# Altium integrated library Resistor - Current Sense.IntLib: 810 symbols (part 3 of 12)
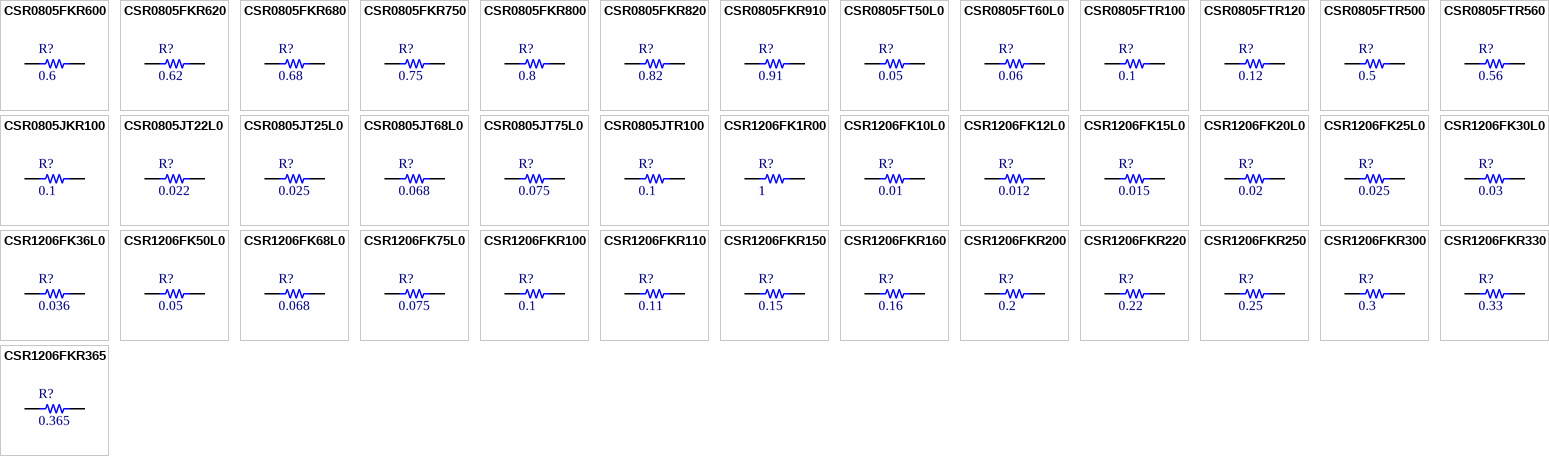
[diagram p22: symbols CSR0805FKR600 to CSR1206FKR365]

## CSR1206FK12L0
designator R?, comment 0.012
RES SMD 0.012 OHM 1% 1/2W 1206; Part Number: CSR1206FK12L0; Manufacturer: Stackpole Electronics Inc.; TemperatureRange: -55C ~ 155C; PowerRating: 0.5W, 1/2W; Value: 0.012; PartId: 9926; Supplier 1: Digi-Key; Supplier Part Number 1: CSR1206FK12L0TR-ND; ComponentLink1Description: Datasheet; ComponentLink1URL: http://www.seielect.com/catalog/SEI-CSR_CSRN.pdf; ComponentLink2Description: Digi-Key Listing; ComponentLink2URL: https://www.digikey.com/product-detail/en/stackpole-electronics-inc/CSR1206FK12L0/CSR1206FK12L0TR-ND/1788085; Tolerance: 1%; Price: 0.112; Device Package: 1206 (3216 Metric)
footprint STACKPOLE CSR1206
pins: 1, 2

## CSR1206FK15L0
designator R?, comment 0.015
RES SMD 0.015 OHM 1% 1/2W 1206; Part Number: CSR1206FK15L0; Manufacturer: Stackpole Electronics Inc.; TemperatureRange: -55C ~ 155C; PowerRating: 0.5W, 1/2W; Value: 0.015; PartId: 9928; Supplier 1: Digi-Key; Supplier Part Number 1: CSR1206FK15L0TR-ND; ComponentLink1Description: Datasheet; ComponentLink1URL: http://www.seielect.com/catalog/SEI-CSR_CSRN.pdf; ComponentLink2Description: Digi-Key Listing; ComponentLink2URL: https://www.digikey.com/product-detail/en/stackpole-electronics-inc/CSR1206FK15L0/CSR1206FK15L0TR-ND/1742360; Tolerance: 1%; Price: 0.112; Device Package: 1206 (3216 Metric)
footprint STACKPOLE CSR1206
pins: 1, 2

## CSR1206FK20L0
designator R?, comment 0.02
RES SMD 0.02 OHM 1% 1/2W 1206; Part Number: CSR1206FK20L0; Manufacturer: Stackpole Electronics Inc.; TemperatureRange: -55C ~ 155C; PowerRating: 0.5W, 1/2W; Value: 0.02; PartId: 9931; Supplier 1: Digi-Key; Supplier Part Number 1: CSR1206FK20L0TR-ND; ComponentLink1Description: Datasheet; ComponentLink1URL: http://www.seielect.com/catalog/SEI-CSR_CSRN.pdf; ComponentLink2Description: Digi-Key Listing; ComponentLink2URL: https://www.digikey.com/product-detail/en/stackpole-electronics-inc/CSR1206FK20L0/CSR1206FK20L0TR-ND/1646092; Tolerance: 1%; Price: 0.098; Device Package: 1206 (3216 Metric)
footprint STACKPOLE CSR1206
pins: 1, 2

## CSR1206FK25L0
designator R?, comment 0.025
RES SMD 0.025 OHM 1% 1/2W 1206; Part Number: CSR1206FK25L0; Manufacturer: Stackpole Electronics Inc.; TemperatureRange: -55C ~ 155C; PowerRating: 0.5W, 1/2W; Value: 0.025; PartId: 9934; Supplier 1: Digi-Key; Supplier Part Number 1: CSR1206FK25L0TR-ND; ComponentLink1Description: Datasheet; ComponentLink1URL: http://www.seielect.com/catalog/SEI-CSR_CSRN.pdf; ComponentLink2Description: Digi-Key Listing; ComponentLink2URL: https://www.digikey.com/product-detail/en/stackpole-electronics-inc/CSR1206FK25L0/CSR1206FK25L0TR-ND/1646093; Tolerance: 1%; Price: 0.098; Device Package: 1206 (3216 Metric)
footprint STACKPOLE CSR1206
pins: 1, 2

## CSR1206FK30L0
designator R?, comment 0.03
RES SMD 0.03 OHM 1% 1/2W 1206; Part Number: CSR1206FK30L0; Manufacturer: Stackpole Electronics Inc.; TemperatureRange: -55C ~ 155C; PowerRating: 0.5W, 1/2W; Value: 0.03; PartId: 9936; Supplier 1: Digi-Key; Supplier Part Number 1: CSR1206FK30L0TR-ND; ComponentLink1Description: Datasheet; ComponentLink1URL: http://www.seielect.com/catalog/SEI-CSR_CSRN.pdf; ComponentLink2Description: Digi-Key Listing; ComponentLink2URL: https://www.digikey.com/product-detail/en/stackpole-electronics-inc/CSR1206FK30L0/CSR1206FK30L0TR-ND/1646094; Tolerance: 1%; Price: 0.098; Device Package: 1206 (3216 Metric)
footprint STACKPOLE CSR1206
pins: 1, 2

## CSR1206FK36L0
designator R?, comment 0.036
RES SMD 0.036 OHM 1% 1/2W 1206; Part Number: CSR1206FK36L0; Manufacturer: Stackpole Electronics Inc.; TemperatureRange: -55C ~ 155C; PowerRating: 0.5W, 1/2W; Value: 0.036; PartId: 9939; Supplier 1: Digi-Key; Supplier Part Number 1: CSR1206FK36L0-ND; ComponentLink1Description: Datasheet; ComponentLink1URL: http://www.seielect.com/catalog/SEI-CSR_CSRN.pdf; ComponentLink2Description: Digi-Key Listing; ComponentLink2URL: https://www.digikey.com/product-detail/en/stackpole-electronics-inc/CSR1206FK36L0/CSR1206FK36L0-ND/1742368; Tolerance: 1%; Price: 0.098; Device Package: 1206 (3216 Metric)
footprint STACKPOLE CSR1206
pins: 1, 2

## CSR1206FK50L0
designator R?, comment 0.05
RES SMD 0.05 OHM 1% 1/2W 1206; Part Number: CSR1206FK50L0; Manufacturer: Stackpole Electronics Inc.; TemperatureRange: -55C ~ 155C; TemperatureCoefficient: 100ppm/C; PowerRating: 0.5W, 1/2W; Value: 0.05; PartId: 9944; Supplier 1: Digi-Key; Supplier Part Number 1: CSR1206FK50L0TR-ND; ComponentLink1Description: Datasheet; ComponentLink1URL: http://www.seielect.com/catalog/SEI-CSR_CSRN.pdf; ComponentLink2Description: Digi-Key Listing; ComponentLink2URL: https://www.digikey.com/product-detail/en/stackpole-electronics-inc/CSR1206FK50L0/CSR1206FK50L0TR-ND/1646095; Tolerance: 1%; Price: 0.096; Device Package: 1206 (3216 Metric)
footprint STACKPOLE CSR1206
pins: 1, 2

## CSR1206FK68L0
designator R?, comment 0.068
RES SMD 0.068 OHM 1% 1/2W 1206; Part Number: CSR1206FK68L0; Manufacturer: Stackpole Electronics Inc.; TemperatureRange: -55C ~ 155C; TemperatureCoefficient: 100ppm/C; PowerRating: 0.5W, 1/2W; Value: 0.068; PartId: 9949; Supplier 1: Digi-Key; Supplier Part Number 1: CSR1206FK68L0-ND; ComponentLink1Description: Datasheet; ComponentLink1URL: http://www.seielect.com/catalog/SEI-CSR_CSRN.pdf; ComponentLink2Description: Digi-Key Listing; ComponentLink2URL: https://www.digikey.com/product-detail/en/stackpole-electronics-inc/CSR1206FK68L0/CSR1206FK68L0-ND/1742376; Tolerance: 1%; Price: 0.096; Device Package: 1206 (3216 Metric)
footprint STACKPOLE CSR1206
pins: 1, 2

## CSR1206FK75L0
designator R?, comment 0.075
RES SMD 0.075 OHM 1% 1/2W 1206; Part Number: CSR1206FK75L0; Manufacturer: Stackpole Electronics Inc.; TemperatureRange: -55C ~ 155C; TemperatureCoefficient: 100ppm/C; PowerRating: 0.5W, 1/2W; Value: 0.075; PartId: 9950; Supplier 1: Digi-Key; Supplier Part Number 1: CSR1206FK75L0TR-ND; ComponentLink1Description: Datasheet; ComponentLink1URL: http://www.seielect.com/catalog/SEI-CSR_CSRN.pdf; ComponentLink2Description: Digi-Key Listing; ComponentLink2URL: https://www.digikey.com/product-detail/en/stackpole-electronics-inc/CSR1206FK75L0/CSR1206FK75L0TR-ND/1646096; Tolerance: 1%; Price: 0.096; Device Package: 1206 (3216 Metric)
footprint STACKPOLE CSR1206
pins: 1, 2

## CSR1206FKR100
designator R?, comment 0.1
RES SMD 0.1 OHM 1% 1/2W 1206; Part Number: CSR1206FKR100; Manufacturer: Stackpole Electronics Inc.; TemperatureRange: -55C ~ 155C; TemperatureCoefficient: 100ppm/C; PowerRating: 0.5W, 1/2W; Value: 0.1; PartId: 9953; Supplier 1: Digi-Key; Supplier Part Number 1: CSR1206FKR100TR-ND; ComponentLink1Description: Datasheet; ComponentLink1URL: http://www.seielect.com/catalog/SEI-CSR_CSRN.pdf; ComponentLink2Description: Digi-Key Listing; ComponentLink2URL: https://www.digikey.com/product-detail/en/stackpole-electronics-inc/CSR1206FKR100/CSR1206FKR100TR-ND/1646317; Tolerance: 1%; Price: 0.072; Device Package: 1206 (3216 Metric)
footprint STACKPOLE CSR1206
pins: 1, 2

## CSR1206FKR110
designator R?, comment 0.11
RES SMD 0.11 OHM 1% 1/2W 1206; Part Number: CSR1206FKR110; Manufacturer: Stackpole Electronics Inc.; TemperatureRange: -55C ~ 155C; TemperatureCoefficient: 100ppm/C; PowerRating: 0.5W, 1/2W; Value: 0.11; PartId: 9956; Supplier 1: Digi-Key; Supplier Part Number 1: CSR1206FKR110-ND; ComponentLink1Description: Datasheet; ComponentLink1URL: http://www.seielect.com/catalog/SEI-CSR_CSRN.pdf; ComponentLink2Description: Digi-Key Listing; ComponentLink2URL: https://www.digikey.com/product-detail/en/stackpole-electronics-inc/CSR1206FKR110/CSR1206FKR110-ND/1742381; Tolerance: 1%; Price: 0.072; Device Package: 1206 (3216 Metric)
footprint STACKPOLE CSR1206
pins: 1, 2

## CSR1206FKR150
designator R?, comment 0.15
RES SMD 0.15 OHM 1% 1/2W 1206; Part Number: CSR1206FKR150; Manufacturer: Stackpole Electronics Inc.; TemperatureRange: -55C ~ 155C; TemperatureCoefficient: 100ppm/C; PowerRating: 0.5W, 1/2W; Value: 0.15; PartId: 9961; Supplier 1: Digi-Key; Supplier Part Number 1: CSR1206FKR150-ND; ComponentLink1Description: Datasheet; ComponentLink1URL: http://www.seielect.com/catalog/SEI-CSR_CSRN.pdf; ComponentLink2Description: Digi-Key Listing; ComponentLink2URL: https://www.digikey.com/product-detail/en/stackpole-electronics-inc/CSR1206FKR150/CSR1206FKR150-ND/1742386; Tolerance: 1%; Price: 0.072; Device Package: 1206 (3216 Metric)
footprint STACKPOLE CSR1206
pins: 1, 2

## CSR1206FKR160
designator R?, comment 0.16
RES SMD 0.16 OHM 1% 1/2W 1206; Part Number: CSR1206FKR160; Manufacturer: Stackpole Electronics Inc.; TemperatureRange: -55C ~ 155C; TemperatureCoefficient: 100ppm/C; PowerRating: 0.5W, 1/2W; Value: 0.16; PartId: 9962; Supplier 1: Digi-Key; Supplier Part Number 1: CSR1206FKR160-ND; ComponentLink1Description: Datasheet; ComponentLink1URL: http://www.seielect.com/catalog/SEI-CSR_CSRN.pdf; ComponentLink2Description: Digi-Key Listing; ComponentLink2URL: https://www.digikey.com/product-detail/en/stackpole-electronics-inc/CSR1206FKR160/CSR1206FKR160-ND/1742388; Tolerance: 1%; Price: 0.072; Device Package: 1206 (3216 Metric)
footprint STACKPOLE CSR1206
pins: 1, 2

## CSR1206FKR200
designator R?, comment 0.2
RES SMD 0.2 OHM 1% 1/2W 1206; Part Number: CSR1206FKR200; Manufacturer: Stackpole Electronics Inc.; TemperatureRange: -55C ~ 155C; TemperatureCoefficient: 100ppm/C; PowerRating: 0.5W, 1/2W; Value: 0.2; PartId: 9964; Supplier 1: Digi-Key; Supplier Part Number 1: CSR1206FKR200TR-ND; ComponentLink1Description: Datasheet; ComponentLink1URL: http://www.seielect.com/catalog/SEI-CSR_CSRN.pdf; ComponentLink2Description: Digi-Key Listing; ComponentLink2URL: https://www.digikey.com/product-detail/en/stackpole-electronics-inc/CSR1206FKR200/CSR1206FKR200TR-ND/1742391; Tolerance: 1%; Price: 0.072; Device Package: 1206 (3216 Metric)
footprint STACKPOLE CSR1206
pins: 1, 2

## CSR1206FKR220
designator R?, comment 0.22
RES SMD 0.22 OHM 1% 1/2W 1206; Part Number: CSR1206FKR220; Manufacturer: Stackpole Electronics Inc.; TemperatureRange: -55C ~ 155C; TemperatureCoefficient: 100ppm/C; PowerRating: 0.5W, 1/2W; Value: 0.22; PartId: 9966; Supplier 1: Digi-Key; Supplier Part Number 1: CSR1206FKR220-ND; ComponentLink1Description: Datasheet; ComponentLink1URL: http://www.seielect.com/catalog/SEI-CSR_CSRN.pdf; ComponentLink2Description: Digi-Key Listing; ComponentLink2URL: https://www.digikey.com/product-detail/en/stackpole-electronics-inc/CSR1206FKR220/CSR1206FKR220-ND/1742392; Tolerance: 1%; Price: 0.072; Device Package: 1206 (3216 Metric)
footprint STACKPOLE CSR1206
pins: 1, 2

## CSR1206FKR250
designator R?, comment 0.25
RES SMD 0.25 OHM 1% 1/2W 1206; Part Number: CSR1206FKR250; Manufacturer: Stackpole Electronics Inc.; TemperatureRange: -55C ~ 155C; TemperatureCoefficient: 100ppm/C; PowerRating: 0.5W, 1/2W; Value: 0.25; PartId: 9967; Supplier 1: Digi-Key; Supplier Part Number 1: CSR1206FKR250TR-ND; ComponentLink1Description: Datasheet; ComponentLink1URL: http://www.seielect.com/catalog/SEI-CSR_CSRN.pdf; ComponentLink2Description: Digi-Key Listing; ComponentLink2URL: https://www.digikey.com/product-detail/en/stackpole-electronics-inc/CSR1206FKR250/CSR1206FKR250TR-ND/1788086; Tolerance: 1%; Price: 0.072; Device Package: 1206 (3216 Metric)
footprint STACKPOLE CSR1206
pins: 1, 2

## CSR1206FKR300
designator R?, comment 0.3
RES SMD 0.3 OHM 1% 1/2W 1206; Part Number: CSR1206FKR300; Manufacturer: Stackpole Electronics Inc.; TemperatureRange: -55C ~ 155C; TemperatureCoefficient: 100ppm/C; PowerRating: 0.5W, 1/2W; Value: 0.3; PartId: 9969; Supplier 1: Digi-Key; Supplier Part Number 1: CSR1206FKR300TR-ND; ComponentLink1Description: Datasheet; ComponentLink1URL: http://www.seielect.com/catalog/SEI-CSR_CSRN.pdf; ComponentLink2Description: Digi-Key Listing; ComponentLink2URL: https://www.digikey.com/product-detail/en/stackpole-electronics-inc/CSR1206FKR300/CSR1206FKR300TR-ND/1788087; Tolerance: 1%; Price: 0.072; Device Package: 1206 (3216 Metric)
footprint STACKPOLE CSR1206
pins: 1, 2

## CSR1206FKR330
designator R?, comment 0.33
RES SMD 0.33 OHM 1% 1/2W 1206; Part Number: CSR1206FKR330; Manufacturer: Stackpole Electronics Inc.; TemperatureRange: -55C ~ 155C; TemperatureCoefficient: 100ppm/C; PowerRating: 0.5W, 1/2W; Value: 0.33; PartId: 9970; Supplier 1: Digi-Key; Supplier Part Number 1: CSR1206FKR330TR-ND; ComponentLink1Description: Datasheet; ComponentLink1URL: http://www.seielect.com/catalog/SEI-CSR_CSRN.pdf; ComponentLink2Description: Digi-Key Listing; ComponentLink2URL: https://www.digikey.com/product-detail/en/stackpole-electronics-inc/CSR1206FKR330/CSR1206FKR330TR-ND/1742395; Tolerance: 1%; Price: 0.072; Device Package: 1206 (3216 Metric)
footprint STACKPOLE CSR1206
pins: 1, 2

## CSR1206FKR365
designator R?, comment 0.365
RES SMD 0.365 OHM 1% 1/2W 1206; Part Number: CSR1206FKR365; Manufacturer: Stackpole Electronics Inc.; TemperatureRange: -55C ~ 155C; TemperatureCoefficient: 100ppm/C; PowerRating: 0.5W, 1/2W; Value: 0.365; PartId: 9971; Supplier 1: Digi-Key; Supplier Part Number 1: CSR1206FKR365-ND; ComponentLink1Description: Datasheet; ComponentLink1URL: http://www.seielect.com/catalog/SEI-CSR_CSRN.pdf; ComponentLink2Description: Digi-Key Listing; ComponentLink2URL: https://www.digikey.com/product-detail/en/stackpole-electronics-inc/CSR1206FKR365/CSR1206FKR365-ND/1742396; Tolerance: 1%; Price: 0.072; Device Package: 1206 (3216 Metric)
footprint STACKPOLE CSR1206
pins: 1, 2

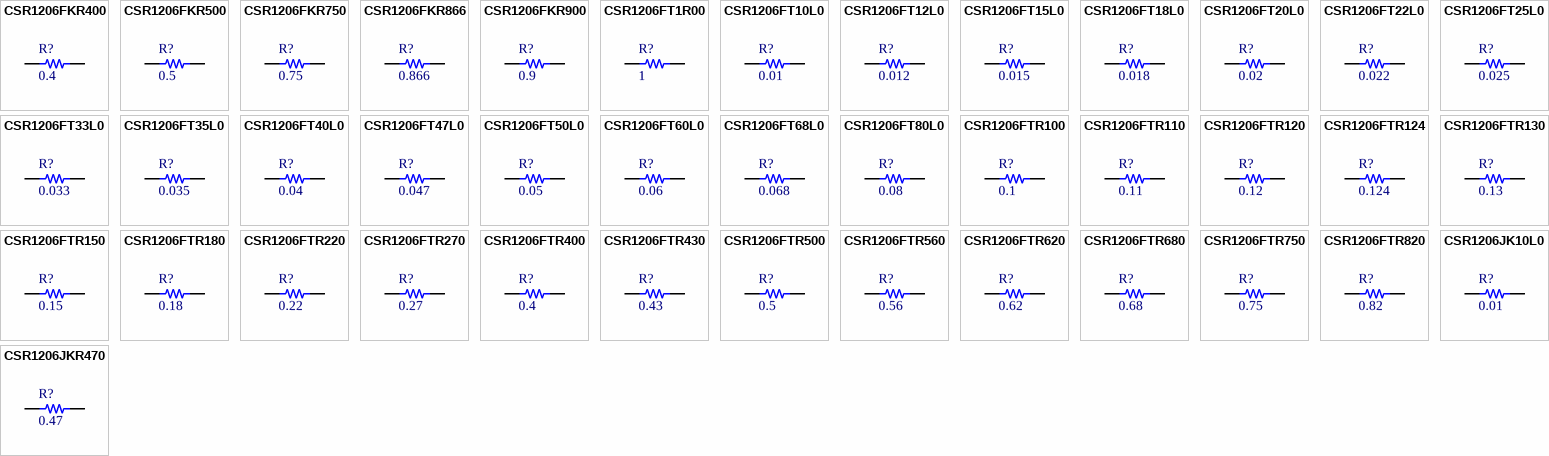
[diagram p4: symbols CSR1206FKR400 to CSR1206JKR470]

## CSR1206FKR400
designator R?, comment 0.4
RES SMD 0.4 OHM 1% 1/2W 1206; Part Number: CSR1206FKR400; Manufacturer: Stackpole Electronics Inc.; TemperatureRange: -55C ~ 155C; TemperatureCoefficient: 100ppm/C; PowerRating: 0.5W, 1/2W; Value: 0.4; PartId: 9973; Supplier 1: Digi-Key; Supplier Part Number 1: CSR1206FKR400-ND; ComponentLink1Description: Datasheet; ComponentLink1URL: http://www.seielect.com/catalog/SEI-CSR_CSRN.pdf; ComponentLink2Description: Digi-Key Listing; ComponentLink2URL: https://www.digikey.com/product-detail/en/stackpole-electronics-inc/CSR1206FKR400/CSR1206FKR400-ND/1742397; Tolerance: 1%; Price: 0.072; Device Package: 1206 (3216 Metric)
footprint STACKPOLE CSR1206
pins: 1, 2

## CSR1206FKR500
designator R?, comment 0.5
RES SMD 0.5 OHM 1% 1/2W 1206; Part Number: CSR1206FKR500; Manufacturer: Stackpole Electronics Inc.; TemperatureRange: -55C ~ 155C; TemperatureCoefficient: 100ppm/C; PowerRating: 0.5W, 1/2W; Value: 0.5; PartId: 9977; Supplier 1: Digi-Key; Supplier Part Number 1: CSR1206FKR500TR-ND; ComponentLink1Description: Datasheet; ComponentLink1URL: http://www.seielect.com/catalog/SEI-CSR_CSRN.pdf; ComponentLink2Description: Digi-Key Listing; ComponentLink2URL: https://www.digikey.com/product-detail/en/stackpole-electronics-inc/CSR1206FKR500/CSR1206FKR500TR-ND/1788088; Tolerance: 1%; Price: 0.051; Device Package: 1206 (3216 Metric)
footprint STACKPOLE CSR1206
pins: 1, 2

## CSR1206FKR750
designator R?, comment 0.75
RES SMD 0.75 OHM 1% 1/2W 1206; Part Number: CSR1206FKR750; Manufacturer: Stackpole Electronics Inc.; TemperatureRange: -55C ~ 155C; TemperatureCoefficient: 100ppm/C; PowerRating: 0.5W, 1/2W; Value: 0.75; PartId: 9982; Supplier 1: Digi-Key; Supplier Part Number 1: CSR1206FKR750TR-ND; ComponentLink1Description: Datasheet; ComponentLink1URL: http://www.seielect.com/catalog/SEI-CSR_CSRN.pdf; ComponentLink2Description: Digi-Key Listing; ComponentLink2URL: https://www.digikey.com/product-detail/en/stackpole-electronics-inc/CSR1206FKR750/CSR1206FKR750TR-ND/1788089; Tolerance: 1%; Price: 0.051; Device Package: 1206 (3216 Metric)
footprint STACKPOLE CSR1206
pins: 1, 2

## CSR1206FKR866
designator R?, comment 0.866
RES SMD 0.866 OHM 1% 1/2W 1206; Part Number: CSR1206FKR866; Manufacturer: Stackpole Electronics Inc.; TemperatureRange: -55C ~ 155C; TemperatureCoefficient: 100ppm/C; PowerRating: 0.5W, 1/2W; Value: 0.866; PartId: 9985; Supplier 1: Digi-Key; Supplier Part Number 1: CSR1206FKR866-ND; ComponentLink1Description: Datasheet; ComponentLink1URL: http://www.seielect.com/catalog/SEI-CSR_CSRN.pdf; ComponentLink2Description: Digi-Key Listing; ComponentLink2URL: https://www.digikey.com/product-detail/en/stackpole-electronics-inc/CSR1206FKR866/CSR1206FKR866-ND/1742408; Tolerance: 1%; Price: 0.0427; Device Package: 1206 (3216 Metric)
footprint STACKPOLE CSR1206
pins: 1, 2

## CSR1206FKR900
designator R?, comment 0.9
RES SMD 0.9 OHM 1% 1/2W 1206; Part Number: CSR1206FKR900; Manufacturer: Stackpole Electronics Inc.; TemperatureRange: -55C ~ 155C; TemperatureCoefficient: 100ppm/C; PowerRating: 0.5W, 1/2W; Value: 0.9; PartId: 9986; Supplier 1: Digi-Key; Supplier Part Number 1: CSR1206FKR900-ND; ComponentLink1Description: Datasheet; ComponentLink1URL: http://www.seielect.com/catalog/SEI-CSR_CSRN.pdf; ComponentLink2Description: Digi-Key Listing; ComponentLink2URL: https://www.digikey.com/product-detail/en/stackpole-electronics-inc/CSR1206FKR900/CSR1206FKR900-ND/1742409; Tolerance: 1%; Price: 0.0427; Device Package: 1206 (3216 Metric)
footprint STACKPOLE CSR1206
pins: 1, 2

## CSR1206FT1R00
designator R?, comment 1
RES SMD 1 OHM 1% 1/2W 1206; Part Number: CSR1206FT1R00; Manufacturer: Stackpole Electronics Inc.; TemperatureRange: -55C ~ 155C; TemperatureCoefficient: 100ppm/C; PowerRating: 0.5W, 1/2W; Value: 1; PartId: 9987; Supplier 1: Digi-Key; Supplier Part Number 1: CSR1206FT1R00TR-ND; ComponentLink1Description: Datasheet; ComponentLink1URL: http://www.seielect.com/catalog/SEI-CSR_CSRN.pdf; ComponentLink2Description: Digi-Key Listing; ComponentLink2URL: https://www.digikey.com/product-detail/en/stackpole-electronics-inc/CSR1206FT1R00/CSR1206FT1R00TR-ND/2027024; Tolerance: 1%; Price: 0.0427; Device Package: 1206 (3216 Metric)
footprint STACKPOLE CSR1206
pins: 1, 2

## CSR1206FT10L0
designator R?, comment 0.01
RES SMD 0.01 OHM 1% 1/2W 1206; Part Number: CSR1206FT10L0; Manufacturer: Stackpole Electronics Inc.; TemperatureRange: -55C ~ 155C; PowerRating: 0.5W, 1/2W; Value: 0.01; PartId: 9923; Supplier 1: Digi-Key; Supplier Part Number 1: CSR1206FT10L0TR-ND; ComponentLink1Description: Datasheet; ComponentLink1URL: http://www.seielect.com/catalog/SEI-CSR_CSRN.pdf; ComponentLink2Description: Digi-Key Listing; ComponentLink2URL: https://www.digikey.com/product-detail/en/stackpole-electronics-inc/CSR1206FT10L0/CSR1206FT10L0TR-ND/1742357; Tolerance: 1%; Price: 0.1064; Device Package: 1206 (3216 Metric)
footprint STACKPOLE CSR1206
pins: 1, 2

## CSR1206FT12L0
designator R?, comment 0.012
RES SMD 0.012 OHM 1% 1/2W 1206; Part Number: CSR1206FT12L0; Manufacturer: Stackpole Electronics Inc.; TemperatureRange: -55C ~ 155C; PowerRating: 0.5W, 1/2W; Value: 0.012; PartId: 9927; Supplier 1: Digi-Key; Supplier Part Number 1: CSR1206FT12L0-ND; ComponentLink1Description: Datasheet; ComponentLink1URL: http://www.seielect.com/catalog/SEI-CSR_CSRN.pdf; ComponentLink2Description: Digi-Key Listing; ComponentLink2URL: https://www.digikey.com/product-detail/en/stackpole-electronics-inc/CSR1206FT12L0/CSR1206FT12L0-ND/1742359; Tolerance: 1%; Price: 0.1064; Device Package: 1206 (3216 Metric)
footprint STACKPOLE CSR1206
pins: 1, 2

## CSR1206FT15L0
designator R?, comment 0.015
RES SMD 0.015 OHM 1% 1/2W 1206; Part Number: CSR1206FT15L0; Manufacturer: Stackpole Electronics Inc.; TemperatureRange: -55C ~ 155C; PowerRating: 0.5W, 1/2W; Value: 0.015; PartId: 9929; Supplier 1: Digi-Key; Supplier Part Number 1: CSR1206FT15L0-ND; ComponentLink1Description: Datasheet; ComponentLink1URL: http://www.seielect.com/catalog/SEI-CSR_CSRN.pdf; ComponentLink2Description: Digi-Key Listing; ComponentLink2URL: https://www.digikey.com/product-detail/en/stackpole-electronics-inc/CSR1206FT15L0/CSR1206FT15L0-ND/1742361; Tolerance: 1%; Price: 0.1064; Device Package: 1206 (3216 Metric)
footprint STACKPOLE CSR1206
pins: 1, 2

## CSR1206FT18L0
designator R?, comment 0.018
RES SMD 0.018 OHM 1% 1/2W 1206; Part Number: CSR1206FT18L0; Manufacturer: Stackpole Electronics Inc.; TemperatureRange: -55C ~ 155C; PowerRating: 0.5W, 1/2W; Value: 0.018; PartId: 9930; Supplier 1: Digi-Key; Supplier Part Number 1: CSR1206FT18L0-ND; ComponentLink1Description: Datasheet; ComponentLink1URL: http://www.seielect.com/catalog/SEI-CSR_CSRN.pdf; ComponentLink2Description: Digi-Key Listing; ComponentLink2URL: https://www.digikey.com/product-detail/en/stackpole-electronics-inc/CSR1206FT18L0/CSR1206FT18L0-ND/1742362; Tolerance: 1%; Price: 0.1064; Device Package: 1206 (3216 Metric)
footprint STACKPOLE CSR1206
pins: 1, 2

## CSR1206FT20L0
designator R?, comment 0.02
RES SMD 0.02 OHM 1% 1/2W 1206; Part Number: CSR1206FT20L0; Manufacturer: Stackpole Electronics Inc.; TemperatureRange: -55C ~ 155C; PowerRating: 0.5W, 1/2W; Value: 0.02; PartId: 9932; Supplier 1: Digi-Key; Supplier Part Number 1: CSR1206FT20L0-ND; ComponentLink1Description: Datasheet; ComponentLink1URL: http://www.seielect.com/catalog/SEI-CSR_CSRN.pdf; ComponentLink2Description: Digi-Key Listing; ComponentLink2URL: https://www.digikey.com/product-detail/en/stackpole-electronics-inc/CSR1206FT20L0/CSR1206FT20L0-ND/1742363; Tolerance: 1%; Price: 0.1064; Device Package: 1206 (3216 Metric)
footprint STACKPOLE CSR1206
pins: 1, 2

## CSR1206FT22L0
designator R?, comment 0.022
RES SMD 0.022 OHM 1% 1/2W 1206; Part Number: CSR1206FT22L0; Manufacturer: Stackpole Electronics Inc.; TemperatureRange: -55C ~ 155C; PowerRating: 0.5W, 1/2W; Value: 0.022; PartId: 9933; Supplier 1: Digi-Key; Supplier Part Number 1: CSR1206FT22L0-ND; ComponentLink1Description: Datasheet; ComponentLink1URL: http://www.seielect.com/catalog/SEI-CSR_CSRN.pdf; ComponentLink2Description: Digi-Key Listing; ComponentLink2URL: https://www.digikey.com/product-detail/en/stackpole-electronics-inc/CSR1206FT22L0/CSR1206FT22L0-ND/1742364; Tolerance: 1%; Price: 0.0931; Device Package: 1206 (3216 Metric)
footprint STACKPOLE CSR1206
pins: 1, 2

## CSR1206FT25L0
designator R?, comment 0.025
RES SMD 0.025 OHM 1% 1/2W 1206; Part Number: CSR1206FT25L0; Manufacturer: Stackpole Electronics Inc.; TemperatureRange: -55C ~ 155C; PowerRating: 0.5W, 1/2W; Value: 0.025; PartId: 9935; Supplier 1: Digi-Key; Supplier Part Number 1: CSR1206FT25L0-ND; ComponentLink1Description: Datasheet; ComponentLink1URL: http://www.seielect.com/catalog/SEI-CSR_CSRN.pdf; ComponentLink2Description: Digi-Key Listing; ComponentLink2URL: https://www.digikey.com/product-detail/en/stackpole-electronics-inc/CSR1206FT25L0/CSR1206FT25L0-ND/1742365; Tolerance: 1%; Price: 0.0931; Device Package: 1206 (3216 Metric)
footprint STACKPOLE CSR1206
pins: 1, 2

## CSR1206FT33L0
designator R?, comment 0.033
RES SMD 0.033 OHM 1% 1/2W 1206; Part Number: CSR1206FT33L0; Manufacturer: Stackpole Electronics Inc.; TemperatureRange: -55C ~ 155C; PowerRating: 0.5W, 1/2W; Value: 0.033; PartId: 9937; Supplier 1: Digi-Key; Supplier Part Number 1: CSR1206FT33L0-ND; ComponentLink1Description: Datasheet; ComponentLink1URL: http://www.seielect.com/catalog/SEI-CSR_CSRN.pdf; ComponentLink2Description: Digi-Key Listing; ComponentLink2URL: https://www.digikey.com/product-detail/en/stackpole-electronics-inc/CSR1206FT33L0/CSR1206FT33L0-ND/1742366; Tolerance: 1%; Price: 0.0931; Device Package: 1206 (3216 Metric)
footprint STACKPOLE CSR1206
pins: 1, 2

## CSR1206FT35L0
designator R?, comment 0.035
RES SMD 0.035 OHM 1% 1/2W 1206; Part Number: CSR1206FT35L0; Manufacturer: Stackpole Electronics Inc.; TemperatureRange: -55C ~ 155C; PowerRating: 0.5W, 1/2W; Value: 0.035; PartId: 9938; Supplier 1: Digi-Key; Supplier Part Number 1: CSR1206FT35L0-ND; ComponentLink1Description: Datasheet; ComponentLink1URL: http://www.seielect.com/catalog/SEI-CSR_CSRN.pdf; ComponentLink2Description: Digi-Key Listing; ComponentLink2URL: https://www.digikey.com/product-detail/en/stackpole-electronics-inc/CSR1206FT35L0/CSR1206FT35L0-ND/1742367; Tolerance: 1%; Price: 0.0931; Device Package: 1206 (3216 Metric)
footprint STACKPOLE CSR1206
pins: 1, 2

## CSR1206FT40L0
designator R?, comment 0.04
RES SMD 0.04 OHM 1% 1/2W 1206; Part Number: CSR1206FT40L0; Manufacturer: Stackpole Electronics Inc.; TemperatureRange: -55C ~ 155C; PowerRating: 0.5W, 1/2W; Value: 0.04; PartId: 9940; Supplier 1: Digi-Key; Supplier Part Number 1: CSR1206FT40L0-ND; ComponentLink1Description: Datasheet; ComponentLink1URL: http://www.seielect.com/catalog/SEI-CSR_CSRN.pdf; ComponentLink2Description: Digi-Key Listing; ComponentLink2URL: https://www.digikey.com/product-detail/en/stackpole-electronics-inc/CSR1206FT40L0/CSR1206FT40L0-ND/1742369; Tolerance: 1%; Price: 0.0931; Device Package: 1206 (3216 Metric)
footprint STACKPOLE CSR1206
pins: 1, 2

## CSR1206FT47L0
designator R?, comment 0.047
RES SMD 0.047 OHM 1% 1/2W 1206; Part Number: CSR1206FT47L0; Manufacturer: Stackpole Electronics Inc.; TemperatureRange: -55C ~ 155C; PowerRating: 0.5W, 1/2W; Value: 0.047; PartId: 9941; Supplier 1: Digi-Key; Supplier Part Number 1: CSR1206FT47L0-ND; ComponentLink1Description: Datasheet; ComponentLink1URL: http://www.seielect.com/catalog/SEI-CSR_CSRN.pdf; ComponentLink2Description: Digi-Key Listing; ComponentLink2URL: https://www.digikey.com/product-detail/en/stackpole-electronics-inc/CSR1206FT47L0/CSR1206FT47L0-ND/1742370; Tolerance: 1%; Price: 0.0931; Device Package: 1206 (3216 Metric)
footprint STACKPOLE CSR1206
pins: 1, 2

## CSR1206FT50L0
designator R?, comment 0.05
RES SMD 0.05 OHM 1% 1/2W 1206; Part Number: CSR1206FT50L0; Manufacturer: Stackpole Electronics Inc.; TemperatureRange: -55C ~ 155C; TemperatureCoefficient: 100ppm/C; PowerRating: 0.5W, 1/2W; Value: 0.05; PartId: 9943; Supplier 1: Digi-Key; Supplier Part Number 1: CSR1206FT50L0TR-ND; ComponentLink1Description: Datasheet; ComponentLink1URL: http://www.seielect.com/catalog/SEI-CSR_CSRN.pdf; ComponentLink2Description: Digi-Key Listing; ComponentLink2URL: https://www.digikey.com/product-detail/en/stackpole-electronics-inc/CSR1206FT50L0/CSR1206FT50L0TR-ND/1742372; Tolerance: 1%; Price: 0.0675; Device Package: 1206 (3216 Metric)
footprint STACKPOLE CSR1206
pins: 1, 2

## CSR1206FT60L0
designator R?, comment 0.06
RES SMD 0.06 OHM 1% 1/2W 1206; Part Number: CSR1206FT60L0; Manufacturer: Stackpole Electronics Inc.; TemperatureRange: -55C ~ 155C; TemperatureCoefficient: 100ppm/C; PowerRating: 0.5W, 1/2W; Value: 0.06; PartId: 9947; Supplier 1: Digi-Key; Supplier Part Number 1: CSR1206FT60L0-ND; ComponentLink1Description: Datasheet; ComponentLink1URL: http://www.seielect.com/catalog/SEI-CSR_CSRN.pdf; ComponentLink2Description: Digi-Key Listing; ComponentLink2URL: https://www.digikey.com/product-detail/en/stackpole-electronics-inc/CSR1206FT60L0/CSR1206FT60L0-ND/1742375; Tolerance: 1%; Price: 0.081; Device Package: 1206 (3216 Metric)
footprint STACKPOLE CSR1206
pins: 1, 2

## CSR1206FT68L0
designator R?, comment 0.068
RES SMD 0.068 OHM 1% 1/2W 1206; Part Number: CSR1206FT68L0; Manufacturer: Stackpole Electronics Inc.; TemperatureRange: -55C ~ 155C; TemperatureCoefficient: 100ppm/C; PowerRating: 0.5W, 1/2W; Value: 0.068; PartId: 9948; Supplier 1: Digi-Key; Supplier Part Number 1: CSR1206FT68L0-ND; ComponentLink1Description: Datasheet; ComponentLink1URL: http://www.seielect.com/catalog/SEI-CSR_CSRN.pdf; ComponentLink2Description: Digi-Key Listing; ComponentLink2URL: https://www.digikey.com/product-detail/en/stackpole-electronics-inc/CSR1206FT68L0/CSR1206FT68L0-ND/1742377; Tolerance: 1%; Price: 0.081; Device Package: 1206 (3216 Metric)
footprint STACKPOLE CSR1206
pins: 1, 2

## CSR1206FT80L0
designator R?, comment 0.08
RES SMD 0.08 OHM 1% 1/2W 1206; Part Number: CSR1206FT80L0; Manufacturer: Stackpole Electronics Inc.; TemperatureRange: -55C ~ 155C; TemperatureCoefficient: 100ppm/C; PowerRating: 0.5W, 1/2W; Value: 0.08; PartId: 9951; Supplier 1: Digi-Key; Supplier Part Number 1: CSR1206FT80L0-ND; ComponentLink1Description: Datasheet; ComponentLink1URL: http://www.seielect.com/catalog/SEI-CSR_CSRN.pdf; ComponentLink2Description: Digi-Key Listing; ComponentLink2URL: https://www.digikey.com/product-detail/en/stackpole-electronics-inc/CSR1206FT80L0/CSR1206FT80L0-ND/1742378; Tolerance: 1%; Price: 0.081; Device Package: 1206 (3216 Metric)
footprint STACKPOLE CSR1206
pins: 1, 2

## CSR1206FTR100
designator R?, comment 0.1
RES SMD 0.1 OHM 1% 1/2W 1206; Part Number: CSR1206FTR100; Manufacturer: Stackpole Electronics Inc.; TemperatureRange: -55C ~ 155C; TemperatureCoefficient: 100ppm/C; PowerRating: 0.5W, 1/2W; Value: 0.1; PartId: 9952; Supplier 1: Digi-Key; Supplier Part Number 1: CSR1206FTR100TR-ND; ComponentLink1Description: Datasheet; ComponentLink1URL: http://www.seielect.com/catalog/SEI-CSR_CSRN.pdf; ComponentLink2Description: Digi-Key Listing; ComponentLink2URL: https://www.digikey.com/product-detail/en/stackpole-electronics-inc/CSR1206FTR100/CSR1206FTR100TR-ND/1742379; Tolerance: 1%; Price: 0.054; Device Package: 1206 (3216 Metric)
footprint STACKPOLE CSR1206
pins: 1, 2

## CSR1206FTR110
designator R?, comment 0.11
RES SMD 0.11 OHM 1% 1/2W 1206; Part Number: CSR1206FTR110; Manufacturer: Stackpole Electronics Inc.; TemperatureRange: -55C ~ 155C; TemperatureCoefficient: 100ppm/C; PowerRating: 0.5W, 1/2W; Value: 0.11; PartId: 9955; Supplier 1: Digi-Key; Supplier Part Number 1: CSR1206FTR110-ND; ComponentLink1Description: Datasheet; ComponentLink1URL: http://www.seielect.com/catalog/SEI-CSR_CSRN.pdf; ComponentLink2Description: Digi-Key Listing; ComponentLink2URL: https://www.digikey.com/product-detail/en/stackpole-electronics-inc/CSR1206FTR110/CSR1206FTR110-ND/1742382; Tolerance: 1%; Price: 0.0607; Device Package: 1206 (3216 Metric)
footprint STACKPOLE CSR1206
pins: 1, 2

## CSR1206FTR120
designator R?, comment 0.12
RES SMD 0.12 OHM 1% 1/2W 1206; Part Number: CSR1206FTR120; Manufacturer: Stackpole Electronics Inc.; TemperatureRange: -55C ~ 155C; TemperatureCoefficient: 100ppm/C; PowerRating: 0.5W, 1/2W; Value: 0.12; PartId: 9957; Supplier 1: Digi-Key; Supplier Part Number 1: CSR1206FTR120-ND; ComponentLink1Description: Datasheet; ComponentLink1URL: http://www.seielect.com/catalog/SEI-CSR_CSRN.pdf; ComponentLink2Description: Digi-Key Listing; ComponentLink2URL: https://www.digikey.com/product-detail/en/stackpole-electronics-inc/CSR1206FTR120/CSR1206FTR120-ND/1742383; Tolerance: 1%; Price: 0.0607; Device Package: 1206 (3216 Metric)
footprint STACKPOLE CSR1206
pins: 1, 2

## CSR1206FTR124
designator R?, comment 0.124
RES SMD 0.124 OHM 1% 1/2W 1206; Part Number: CSR1206FTR124; Manufacturer: Stackpole Electronics Inc.; TemperatureRange: -55C ~ 155C; TemperatureCoefficient: 100ppm/C; PowerRating: 0.5W, 1/2W; Value: 0.124; PartId: 9958; Supplier 1: Digi-Key; Supplier Part Number 1: CSR1206FTR124-ND; ComponentLink1Description: Datasheet; ComponentLink1URL: http://www.seielect.com/catalog/SEI-CSR_CSRN.pdf; ComponentLink2Description: Digi-Key Listing; ComponentLink2URL: https://www.digikey.com/product-detail/en/stackpole-electronics-inc/CSR1206FTR124/CSR1206FTR124-ND/1742384; Tolerance: 1%; Price: 0.0607; Device Package: 1206 (3216 Metric)
footprint STACKPOLE CSR1206
pins: 1, 2

## CSR1206FTR130
designator R?, comment 0.13
RES SMD 0.13 OHM 1% 1/2W 1206; Part Number: CSR1206FTR130; Manufacturer: Stackpole Electronics Inc.; TemperatureRange: -55C ~ 155C; TemperatureCoefficient: 100ppm/C; PowerRating: 0.5W, 1/2W; Value: 0.13; PartId: 9959; Supplier 1: Digi-Key; Supplier Part Number 1: CSR1206FTR130TR-ND; ComponentLink1Description: Datasheet; ComponentLink1URL: http://www.seielect.com/catalog/SEI-CSR_CSRN.pdf; ComponentLink2Description: Digi-Key Listing; ComponentLink2URL: https://www.digikey.com/product-detail/en/stackpole-electronics-inc/CSR1206FTR130/CSR1206FTR130TR-ND/1742385; Tolerance: 1%; Price: 0.0607; Device Package: 1206 (3216 Metric)
footprint STACKPOLE CSR1206
pins: 1, 2

## CSR1206FTR150
designator R?, comment 0.15
RES SMD 0.15 OHM 1% 1/2W 1206; Part Number: CSR1206FTR150; Manufacturer: Stackpole Electronics Inc.; TemperatureRange: -55C ~ 155C; TemperatureCoefficient: 100ppm/C; PowerRating: 0.5W, 1/2W; Value: 0.15; PartId: 9960; Supplier 1: Digi-Key; Supplier Part Number 1: CSR1206FTR150-ND; ComponentLink1Description: Datasheet; ComponentLink1URL: http://www.seielect.com/catalog/SEI-CSR_CSRN.pdf; ComponentLink2Description: Digi-Key Listing; ComponentLink2URL: https://www.digikey.com/product-detail/en/stackpole-electronics-inc/CSR1206FTR150/CSR1206FTR150-ND/1742387; Tolerance: 1%; Price: 0.0607; Device Package: 1206 (3216 Metric)
footprint STACKPOLE CSR1206
pins: 1, 2

## CSR1206FTR180
designator R?, comment 0.18
RES SMD 0.18 OHM 1% 1/2W 1206; Part Number: CSR1206FTR180; Manufacturer: Stackpole Electronics Inc.; TemperatureRange: -55C ~ 155C; TemperatureCoefficient: 100ppm/C; PowerRating: 0.5W, 1/2W; Value: 0.18; PartId: 9963; Supplier 1: Digi-Key; Supplier Part Number 1: CSR1206FTR180-ND; ComponentLink1Description: Datasheet; ComponentLink1URL: http://www.seielect.com/catalog/SEI-CSR_CSRN.pdf; ComponentLink2Description: Digi-Key Listing; ComponentLink2URL: https://www.digikey.com/product-detail/en/stackpole-electronics-inc/CSR1206FTR180/CSR1206FTR180-ND/1742389; Tolerance: 1%; Price: 0.0607; Device Package: 1206 (3216 Metric)
footprint STACKPOLE CSR1206
pins: 1, 2

## CSR1206FTR220
designator R?, comment 0.22
RES SMD 0.22 OHM 1% 1/2W 1206; Part Number: CSR1206FTR220; Manufacturer: Stackpole Electronics Inc.; TemperatureRange: -55C ~ 155C; TemperatureCoefficient: 100ppm/C; PowerRating: 0.5W, 1/2W; Value: 0.22; PartId: 9965; Supplier 1: Digi-Key; Supplier Part Number 1: CSR1206FTR220-ND; ComponentLink1Description: Datasheet; ComponentLink1URL: http://www.seielect.com/catalog/SEI-CSR_CSRN.pdf; ComponentLink2Description: Digi-Key Listing; ComponentLink2URL: https://www.digikey.com/product-detail/en/stackpole-electronics-inc/CSR1206FTR220/CSR1206FTR220-ND/1742393; Tolerance: 1%; Price: 0.0607; Device Package: 1206 (3216 Metric)
footprint STACKPOLE CSR1206
pins: 1, 2

## CSR1206FTR270
designator R?, comment 0.27
RES SMD 0.27 OHM 1% 1/2W 1206; Part Number: CSR1206FTR270; Manufacturer: Stackpole Electronics Inc.; TemperatureRange: -55C ~ 155C; TemperatureCoefficient: 100ppm/C; PowerRating: 0.5W, 1/2W; Value: 0.27; PartId: 9968; Supplier 1: Digi-Key; Supplier Part Number 1: CSR1206FTR270-ND; ComponentLink1Description: Datasheet; ComponentLink1URL: http://www.seielect.com/catalog/SEI-CSR_CSRN.pdf; ComponentLink2Description: Digi-Key Listing; ComponentLink2URL: https://www.digikey.com/product-detail/en/stackpole-electronics-inc/CSR1206FTR270/CSR1206FTR270-ND/1742394; Tolerance: 1%; Price: 0.0607; Device Package: 1206 (3216 Metric)
footprint STACKPOLE CSR1206
pins: 1, 2

## CSR1206FTR400
designator R?, comment 0.4
RES SMD 0.4 OHM 1% 1/2W 1206; Part Number: CSR1206FTR400; Manufacturer: Stackpole Electronics Inc.; TemperatureRange: -55C ~ 155C; TemperatureCoefficient: 100ppm/C; PowerRating: 0.5W, 1/2W; Value: 0.4; PartId: 9972; Supplier 1: Digi-Key; Supplier Part Number 1: CSR1206FTR400-ND; ComponentLink1Description: Datasheet; ComponentLink1URL: http://www.seielect.com/catalog/SEI-CSR_CSRN.pdf; ComponentLink2Description: Digi-Key Listing; ComponentLink2URL: https://www.digikey.com/product-detail/en/stackpole-electronics-inc/CSR1206FTR400/CSR1206FTR400-ND/1742398; Tolerance: 1%; Price: 0.0607; Device Package: 1206 (3216 Metric)
footprint STACKPOLE CSR1206
pins: 1, 2

## CSR1206FTR430
designator R?, comment 0.43
RES SMD 0.43 OHM 1% 1/2W 1206; Part Number: CSR1206FTR430; Manufacturer: Stackpole Electronics Inc.; TemperatureRange: -55C ~ 155C; TemperatureCoefficient: 100ppm/C; PowerRating: 0.5W, 1/2W; Value: 0.43; PartId: 9974; Supplier 1: Digi-Key; Supplier Part Number 1: CSR1206FTR430-ND; ComponentLink1Description: Datasheet; ComponentLink1URL: http://www.seielect.com/catalog/SEI-CSR_CSRN.pdf; ComponentLink2Description: Digi-Key Listing; ComponentLink2URL: https://www.digikey.com/product-detail/en/stackpole-electronics-inc/CSR1206FTR430/CSR1206FTR430-ND/1742399; Tolerance: 1%; Price: 0.0607; Device Package: 1206 (3216 Metric)
footprint STACKPOLE CSR1206
pins: 1, 2

## CSR1206FTR500
designator R?, comment 0.5
RES SMD 0.5 OHM 1% 1/2W 1206; Part Number: CSR1206FTR500; Manufacturer: Stackpole Electronics Inc.; TemperatureRange: -55C ~ 155C; TemperatureCoefficient: 100ppm/C; PowerRating: 0.5W, 1/2W; Value: 0.5; PartId: 9976; Supplier 1: Digi-Key; Supplier Part Number 1: CSR1206FTR500TR-ND; ComponentLink1Description: Datasheet; ComponentLink1URL: http://www.seielect.com/catalog/SEI-CSR_CSRN.pdf; ComponentLink2Description: Digi-Key Listing; ComponentLink2URL: https://www.digikey.com/product-detail/en/stackpole-electronics-inc/CSR1206FTR500/CSR1206FTR500TR-ND/1742401; Tolerance: 1%; Price: 0.0427; Device Package: 1206 (3216 Metric)
footprint STACKPOLE CSR1206
pins: 1, 2

## CSR1206FTR560
designator R?, comment 0.56
RES SMD 0.56 OHM 1% 1/2W 1206; Part Number: CSR1206FTR560; Manufacturer: Stackpole Electronics Inc.; TemperatureRange: -55C ~ 155C; TemperatureCoefficient: 100ppm/C; PowerRating: 0.5W, 1/2W; Value: 0.56; PartId: 9979; Supplier 1: Digi-Key; Supplier Part Number 1: CSR1206FTR560-ND; ComponentLink1Description: Datasheet; ComponentLink1URL: http://www.seielect.com/catalog/SEI-CSR_CSRN.pdf; ComponentLink2Description: Digi-Key Listing; ComponentLink2URL: https://www.digikey.com/product-detail/en/stackpole-electronics-inc/CSR1206FTR560/CSR1206FTR560-ND/1742403; Tolerance: 1%; Price: 0.0427; Device Package: 1206 (3216 Metric)
footprint STACKPOLE CSR1206
pins: 1, 2

## CSR1206FTR620
designator R?, comment 0.62
RES SMD 0.62 OHM 1% 1/2W 1206; Part Number: CSR1206FTR620; Manufacturer: Stackpole Electronics Inc.; TemperatureRange: -55C ~ 155C; TemperatureCoefficient: 100ppm/C; PowerRating: 0.5W, 1/2W; Value: 0.62; PartId: 9980; Supplier 1: Digi-Key; Supplier Part Number 1: CSR1206FTR620-ND; ComponentLink1Description: Datasheet; ComponentLink1URL: http://www.seielect.com/catalog/SEI-CSR_CSRN.pdf; ComponentLink2Description: Digi-Key Listing; ComponentLink2URL: https://www.digikey.com/product-detail/en/stackpole-electronics-inc/CSR1206FTR620/CSR1206FTR620-ND/1742404; Tolerance: 1%; Price: 0.0427; Device Package: 1206 (3216 Metric)
footprint STACKPOLE CSR1206
pins: 1, 2

## CSR1206FTR680
designator R?, comment 0.68
RES SMD 0.68 OHM 1% 1/2W 1206; Part Number: CSR1206FTR680; Manufacturer: Stackpole Electronics Inc.; TemperatureRange: -55C ~ 155C; TemperatureCoefficient: 100ppm/C; PowerRating: 0.5W, 1/2W; Value: 0.68; PartId: 9981; Supplier 1: Digi-Key; Supplier Part Number 1: CSR1206FTR680-ND; ComponentLink1Description: Datasheet; ComponentLink1URL: http://www.seielect.com/catalog/SEI-CSR_CSRN.pdf; ComponentLink2Description: Digi-Key Listing; ComponentLink2URL: https://www.digikey.com/product-detail/en/stackpole-electronics-inc/CSR1206FTR680/CSR1206FTR680-ND/1742405; Tolerance: 1%; Price: 0.0427; Device Package: 1206 (3216 Metric)
footprint STACKPOLE CSR1206
pins: 1, 2

## CSR1206FTR750
designator R?, comment 0.75
RES SMD 0.75 OHM 1% 1/2W 1206; Part Number: CSR1206FTR750; Manufacturer: Stackpole Electronics Inc.; TemperatureRange: -55C ~ 155C; TemperatureCoefficient: 100ppm/C; PowerRating: 0.5W, 1/2W; Value: 0.75; PartId: 9983; Supplier 1: Digi-Key; Supplier Part Number 1: CSR1206FTR750-ND; ComponentLink1Description: Datasheet; ComponentLink1URL: http://www.seielect.com/catalog/SEI-CSR_CSRN.pdf; ComponentLink2Description: Digi-Key Listing; ComponentLink2URL: https://www.digikey.com/product-detail/en/stackpole-electronics-inc/CSR1206FTR750/CSR1206FTR750-ND/1742406; Tolerance: 1%; Price: 0.0427; Device Package: 1206 (3216 Metric)
footprint STACKPOLE CSR1206
pins: 1, 2

## CSR1206FTR820
designator R?, comment 0.82
RES SMD 0.82 OHM 1% 1/2W 1206; Part Number: CSR1206FTR820; Manufacturer: Stackpole Electronics Inc.; TemperatureRange: -55C ~ 155C; TemperatureCoefficient: 100ppm/C; PowerRating: 0.5W, 1/2W; Value: 0.82; PartId: 9984; Supplier 1: Digi-Key; Supplier Part Number 1: CSR1206FTR820TR-ND; ComponentLink1Description: Datasheet; ComponentLink1URL: http://www.seielect.com/catalog/SEI-CSR_CSRN.pdf; ComponentLink2Description: Digi-Key Listing; ComponentLink2URL: https://www.digikey.com/product-detail/en/stackpole-electronics-inc/CSR1206FTR820/CSR1206FTR820TR-ND/1742407; Tolerance: 1%; Price: 0.0427; Device Package: 1206 (3216 Metric)
footprint STACKPOLE CSR1206
pins: 1, 2

## CSR1206JK10L0
designator R?, comment 0.01
RES SMD 0.01 OHM 5% 1/2W 1206; Part Number: CSR1206JK10L0; Manufacturer: Stackpole Electronics Inc.; TemperatureRange: -55C ~ 155C; PowerRating: 0.5W, 1/2W; Value: 0.01; PartId: 9925; Supplier 1: Digi-Key; Supplier Part Number 1: CSR1206JK10L0-ND; ComponentLink1Description: Datasheet; ComponentLink1URL: http://www.seielect.com/catalog/SEI-CSR_CSRN.pdf; ComponentLink2Description: Digi-Key Listing; ComponentLink2URL: https://www.digikey.com/product-detail/en/stackpole-electronics-inc/CSR1206JK10L0/CSR1206JK10L0-ND/1742358; Tolerance: 5%; Price: 0.126; Device Package: 1206 (3216 Metric)
footprint STACKPOLE CSR1206
pins: 1, 2

## CSR1206JKR470
designator R?, comment 0.47
RES SMD 0.47 OHM 5% 1/2W 1206; Part Number: CSR1206JKR470; Manufacturer: Stackpole Electronics Inc.; TemperatureRange: -55C ~ 155C; TemperatureCoefficient: 100ppm/C; PowerRating: 0.5W, 1/2W; Value: 0.47; PartId: 9975; Supplier 1: Digi-Key; Supplier Part Number 1: CSR1206JKR470-ND; ComponentLink1Description: Datasheet; ComponentLink1URL: http://www.seielect.com/catalog/SEI-CSR_CSRN.pdf; ComponentLink2Description: Digi-Key Listing; ComponentLink2URL: https://www.digikey.com/product-detail/en/stackpole-electronics-inc/CSR1206JKR470/CSR1206JKR470-ND/1742400; Tolerance: 5%; Price: 0.051; Device Package: 1206 (3216 Metric)
footprint STACKPOLE CSR1206
pins: 1, 2

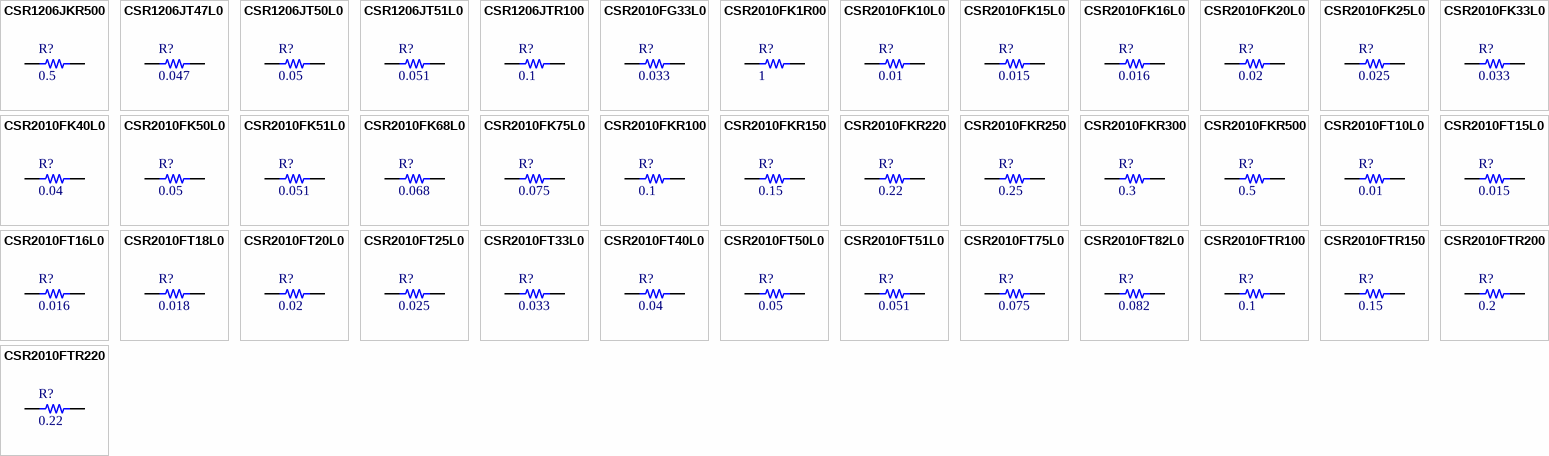
[diagram p5: symbols CSR1206JKR500 to CSR2010FTR220]

## CSR1206JKR500
designator R?, comment 0.5
RES SMD 0.5 OHM 5% 1/2W 1206; Part Number: CSR1206JKR500; Manufacturer: Stackpole Electronics Inc.; TemperatureRange: -55C ~ 155C; TemperatureCoefficient: 100ppm/C; PowerRating: 0.5W, 1/2W; Value: 0.5; PartId: 9978; Supplier 1: Digi-Key; Supplier Part Number 1: CSR1206JKR500-ND; ComponentLink1Description: Datasheet; ComponentLink1URL: http://www.seielect.com/catalog/SEI-CSR_CSRN.pdf; ComponentLink2Description: Digi-Key Listing; ComponentLink2URL: https://www.digikey.com/product-detail/en/stackpole-electronics-inc/CSR1206JKR500/CSR1206JKR500-ND/1742402; Tolerance: 5%; Price: 0.027; Device Package: 1206 (3216 Metric)
footprint STACKPOLE CSR1206
pins: 1, 2

## CSR1206JT47L0
designator R?, comment 0.047
RES SMD 0.047 OHM 5% 1/2W 1206; Part Number: CSR1206JT47L0; Manufacturer: Stackpole Electronics Inc.; TemperatureRange: -55C ~ 155C; PowerRating: 0.5W, 1/2W; Value: 0.047; PartId: 9942; Supplier 1: Digi-Key; Supplier Part Number 1: CSR1206JT47L0-ND; ComponentLink1Description: Datasheet; ComponentLink1URL: http://www.seielect.com/catalog/SEI-CSR_CSRN.pdf; ComponentLink2Description: Digi-Key Listing; ComponentLink2URL: https://www.digikey.com/product-detail/en/stackpole-electronics-inc/CSR1206JT47L0/CSR1206JT47L0-ND/1742371; Tolerance: 5%; Price: 0.0931; Device Package: 1206 (3216 Metric)
footprint STACKPOLE CSR1206
pins: 1, 2

## CSR1206JT50L0
designator R?, comment 0.05
RES SMD 0.05 OHM 5% 1/2W 1206; Part Number: CSR1206JT50L0; Manufacturer: Stackpole Electronics Inc.; TemperatureRange: -55C ~ 155C; TemperatureCoefficient: 100ppm/C; PowerRating: 0.5W, 1/2W; Value: 0.05; PartId: 9945; Supplier 1: Digi-Key; Supplier Part Number 1: CSR1206JT50L0-ND; ComponentLink1Description: Datasheet; ComponentLink1URL: http://www.seielect.com/catalog/SEI-CSR_CSRN.pdf; ComponentLink2Description: Digi-Key Listing; ComponentLink2URL: https://www.digikey.com/product-detail/en/stackpole-electronics-inc/CSR1206JT50L0/CSR1206JT50L0-ND/1742373; Tolerance: 5%; Price: 0.0931; Device Package: 1206 (3216 Metric)
footprint STACKPOLE CSR1206
pins: 1, 2

## CSR1206JT51L0
designator R?, comment 0.051
RES SMD 0.051 OHM 5% 1/2W 1206; Part Number: CSR1206JT51L0; Manufacturer: Stackpole Electronics Inc.; TemperatureRange: -55C ~ 155C; TemperatureCoefficient: 100ppm/C; PowerRating: 0.5W, 1/2W; Value: 0.051; PartId: 9946; Supplier 1: Digi-Key; Supplier Part Number 1: CSR1206JT51L0-ND; ComponentLink1Description: Datasheet; ComponentLink1URL: http://www.seielect.com/catalog/SEI-CSR_CSRN.pdf; ComponentLink2Description: Digi-Key Listing; ComponentLink2URL: https://www.digikey.com/product-detail/en/stackpole-electronics-inc/CSR1206JT51L0/CSR1206JT51L0-ND/1742374; Tolerance: 5%; Price: 0.081; Device Package: 1206 (3216 Metric)
footprint STACKPOLE CSR1206
pins: 1, 2

## CSR1206JTR100
designator R?, comment 0.1
RES SMD 0.1 OHM 5% 1/2W 1206; Part Number: CSR1206JTR100; Manufacturer: Stackpole Electronics Inc.; TemperatureRange: -55C ~ 155C; TemperatureCoefficient: 100ppm/C; PowerRating: 0.5W, 1/2W; Value: 0.1; PartId: 9954; Supplier 1: Digi-Key; Supplier Part Number 1: CSR1206JTR100-ND; ComponentLink1Description: Datasheet; ComponentLink1URL: http://www.seielect.com/catalog/SEI-CSR_CSRN.pdf; ComponentLink2Description: Digi-Key Listing; ComponentLink2URL: https://www.digikey.com/product-detail/en/stackpole-electronics-inc/CSR1206JTR100/CSR1206JTR100-ND/1742380; Tolerance: 5%; Price: 0.0427; Device Package: 1206 (3216 Metric)
footprint STACKPOLE CSR1206
pins: 1, 2

## CSR2010FG33L0
designator R?, comment 0.033
RES SMD 0.033 OHM 1% 1W 2010; Part Number: CSR2010FG33L0; Manufacturer: Stackpole Electronics Inc.; TemperatureRange: -55C ~ 155C; Value: 0.033; PartId: 10021; Supplier 1: Digi-Key; Supplier Part Number 1: CSR2010FG33L0TR-ND; ComponentLink1Description: Datasheet; ComponentLink1URL: http://www.seielect.com/catalog/SEI-CSR_CSRN.pdf; ComponentLink2Description: Digi-Key Listing; ComponentLink2URL: https://www.digikey.com/product-detail/en/stackpole-electronics-inc/CSR2010FG33L0/CSR2010FG33L0TR-ND/2027021; Tolerance: 1%; PowerRating: 1W; Price: 0.169; Device Package: 2010 (5025 Metric)
footprint STACKPOLE CSR2010
pins: 1, 2

## CSR2010FK1R00
designator R?, comment 1
RES SMD 1 OHM 1% 1W 2010; Part Number: CSR2010FK1R00; Manufacturer: Stackpole Electronics Inc.; TemperatureRange: -55C ~ 155C; TemperatureCoefficient: 100ppm/C; Value: 1; PartId: 9999; Supplier 1: Digi-Key; Supplier Part Number 1: CSR2010FK1R00-ND; ComponentLink1Description: Datasheet; ComponentLink1URL: http://www.seielect.com/catalog/SEI-CSR_CSRN.pdf; ComponentLink2Description: Digi-Key Listing; ComponentLink2URL: https://www.digikey.com/product-detail/en/stackpole-electronics-inc/CSR2010FK1R00/CSR2010FK1R00-ND/1742356; Tolerance: 1%; PowerRating: 1W; Price: 0.098; Device Package: 2010 (5025 Metric)
footprint STACKPOLE CSR2010
pins: 1, 2

## CSR2010FK10L0
designator R?, comment 0.01
RES SMD 0.01 OHM 1% 1W 2010; Part Number: CSR2010FK10L0; Manufacturer: Stackpole Electronics Inc.; TemperatureRange: -55C ~ 155C; Value: 0.01; PartId: 10035; Supplier 1: Digi-Key; Supplier Part Number 1: CSR2010FK10L0-ND; ComponentLink1Description: Datasheet; ComponentLink1URL: http://www.seielect.com/catalog/SEI-CSR_CSRN.pdf; ComponentLink2Description: Digi-Key Listing; ComponentLink2URL: https://www.digikey.com/product-detail/en/stackpole-electronics-inc/CSR2010FK10L0/CSR2010FK10L0-ND/1742310; Tolerance: 1%; PowerRating: 1W; Price: 0.1925; Device Package: 2010 (5025 Metric)
footprint STACKPOLE CSR2010
pins: 1, 2

## CSR2010FK15L0
designator R?, comment 0.015
RES SMD 0.015 OHM 1% 1W 2010; Part Number: CSR2010FK15L0; Manufacturer: Stackpole Electronics Inc.; TemperatureRange: -55C ~ 155C; Value: 0.015; PartId: 10036; Supplier 1: Digi-Key; Supplier Part Number 1: CSR2010FK15L0-ND; ComponentLink1Description: Datasheet; ComponentLink1URL: http://www.seielect.com/catalog/SEI-CSR_CSRN.pdf; ComponentLink2Description: Digi-Key Listing; ComponentLink2URL: https://www.digikey.com/product-detail/en/stackpole-electronics-inc/CSR2010FK15L0/CSR2010FK15L0-ND/1742313; Tolerance: 1%; PowerRating: 1W; Price: 0.1925; Device Package: 2010 (5025 Metric)
footprint STACKPOLE CSR2010
pins: 1, 2

## CSR2010FK16L0
designator R?, comment 0.016
RES SMD 0.016 OHM 1% 1W 2010; Part Number: CSR2010FK16L0; Manufacturer: Stackpole Electronics Inc.; TemperatureRange: -55C ~ 155C; Value: 0.016; PartId: 10037; Supplier 1: Digi-Key; Supplier Part Number 1: CSR2010FK16L0-ND; ComponentLink1Description: Datasheet; ComponentLink1URL: http://www.seielect.com/catalog/SEI-CSR_CSRN.pdf; ComponentLink2Description: Digi-Key Listing; ComponentLink2URL: https://www.digikey.com/product-detail/en/stackpole-electronics-inc/CSR2010FK16L0/CSR2010FK16L0-ND/1742315; Tolerance: 1%; PowerRating: 1W; Price: 0.1925; Device Package: 2010 (5025 Metric)
footprint STACKPOLE CSR2010
pins: 1, 2

## CSR2010FK20L0
designator R?, comment 0.02
RES SMD 0.02 OHM 1% 1W 2010; Part Number: CSR2010FK20L0; Manufacturer: Stackpole Electronics Inc.; TemperatureRange: -55C ~ 155C; Value: 0.02; PartId: 10038; Supplier 1: Digi-Key; Supplier Part Number 1: CSR2010FK20L0-ND; ComponentLink1Description: Datasheet; ComponentLink1URL: http://www.seielect.com/catalog/SEI-CSR_CSRN.pdf; ComponentLink2Description: Digi-Key Listing; ComponentLink2URL: https://www.digikey.com/product-detail/en/stackpole-electronics-inc/CSR2010FK20L0/CSR2010FK20L0-ND/1742318; Tolerance: 1%; PowerRating: 1W; Price: 0.1925; Device Package: 2010 (5025 Metric)
footprint STACKPOLE CSR2010
pins: 1, 2

## CSR2010FK25L0
designator R?, comment 0.025
RES SMD 0.025 OHM 1% 1W 2010; Part Number: CSR2010FK25L0; Manufacturer: Stackpole Electronics Inc.; TemperatureRange: -55C ~ 155C; Value: 0.025; PartId: 10027; Supplier 1: Digi-Key; Supplier Part Number 1: CSR2010FK25L0-ND; ComponentLink1Description: Datasheet; ComponentLink1URL: http://www.seielect.com/catalog/SEI-CSR_CSRN.pdf; ComponentLink2Description: Digi-Key Listing; ComponentLink2URL: https://www.digikey.com/product-detail/en/stackpole-electronics-inc/CSR2010FK25L0/CSR2010FK25L0-ND/1742320; Tolerance: 1%; PowerRating: 1W; Price: 0.1787; Device Package: 2010 (5025 Metric)
footprint STACKPOLE CSR2010
pins: 1, 2